# Altium footprint library PcbLib1.PcbLib: 6 footprints (part 1 of 3)
Each footprint in its own frame and in the unit in brackets; x right, y up, seen from the top. Pads: shape width x height; smd on the part's side, far side on the other; paste and mask are expansions set on the pad; w line width, h text height; cw(c..) or ccw(c..) is an arc to the next point about the centre after c.
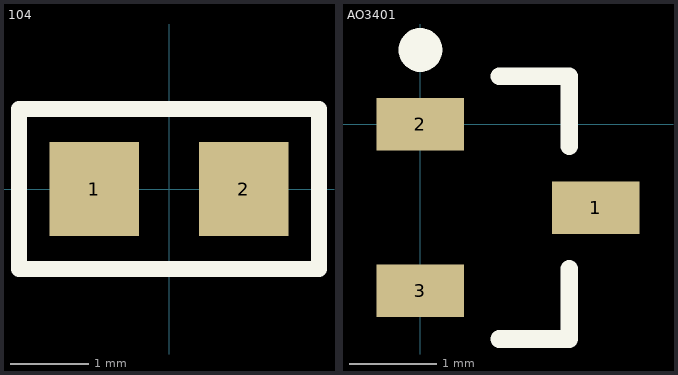
[diagram p0: the footprints below, top view; thin cyan lines are the x and y axes]

## 104 [mm]
pads (2):
  rect 1.14x1.2 smd: 1(-0.95,0) 2(0.95,0)
Top Overlay:
  lines w0.2: -1.905,-1.016 1.905,-1.016 1.905,1.016 -1.905,1.016 -1.905,0 -1.905,-1.016

## AO3401 [mm]
pads (3):
  rect 1x0.6 smd: 1(2,-0.95) 2(0,0) 3(0,-1.9)
Top Overlay:
  circle w0.25: c0,0.85 r0.125
  lines w0.2: 0.9,-2.45 1.7,-2.45 1.7,-1.65 ; 0.9,0.55 1.7,0.55 1.7,-0.25